# Altium schematic symbol library Schlib1.SchLib: 4 symbols
Pins are listed as number, name and electrical type; pins without a type are passive.

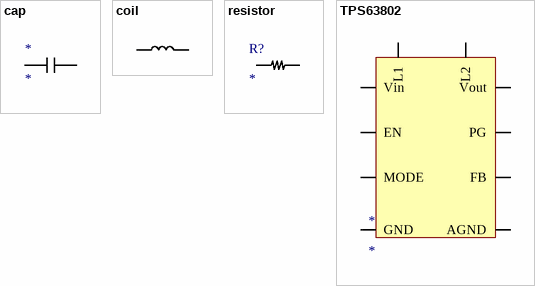
[diagram p0: symbols cap to TPS63802]

## cap
designator *
footprint cap
pins: 1, 2

## coil
designator *, comment ?H  (value not drawn)
footprint coil
pins: 1, 2

## resistor
designator R?
footprint resistor
pins: 1, 2

## TPS63802
designator *
footprint TPS63802
pins: 1 EN, 2 MODE, 3 AGND, 4 FB, 5 PG, 6 Vout, 7 L2, 8 GND, 9 L1, 10 Vin